# EAGLE library part PSOC4_4200_40QFN (library SparkFun-IC-Microcontroller)
Cypress PSoC 4200 32-bit MCU 48-MHz ARM Cortex-M0 Datasheet <http://www.cypress.com/file/138656/download> SparkFun Products: SparkFun serial Controlled Motor Driver <https://www.sparkfun.com/products/13911>
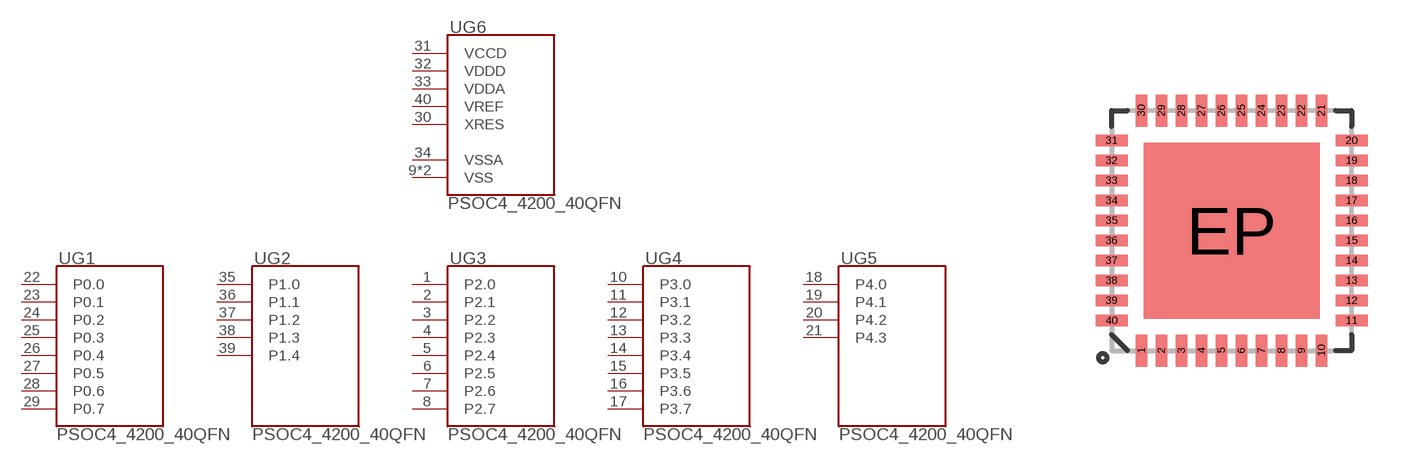
[diagram p24: symbol with the pads of QFN-40; footprint QFN-40]

Designator prefix U; gates G1=CY8C4245LQI_40QFN_PORT0 G2=CY8C4245LQI_40QFN_PORT1 G3=CY8C4245LQI_40QFN_PORT2 G4=CY8C4245LQI_40QFN_PORT3 G5=CY8C4245LQI_40QFN_PORT4 G6=CY8C4245LQI_40QFN_POWER

## PSOC4_4200_40QFN (PROD_ID: IC-13292; VALUE: CY8C4245LQI-483)  [QFN-40]
1  G3:P2.0
2  G3:P2.1
3  G3:P2.2
4  G3:P2.3
5  G3:P2.4
6  G3:P2.5
7  G3:P2.6
8  G3:P2.7
9  G6:VSS
10  G4:P3.0
11  G4:P3.1
12  G4:P3.2
13  G4:P3.3
14  G4:P3.4
15  G4:P3.5
16  G4:P3.6
17  G4:P3.7
18  G5:P4.0
19  G5:P4.1
20  G5:P4.2
21  G5:P4.3
22  G1:P0.0
23  G1:P0.1
24  G1:P0.2
25  G1:P0.3
26  G1:P0.4
27  G1:P0.5
28  G1:P0.6
29  G1:P0.7
30  G6:XRES
31  G6:VCCD
32  G6:VDDD
33  G6:VDDA
34  G6:VSSA
35  G2:P1.0
36  G2:P1.1
37  G2:P1.2
38  G2:P1.3
39  G2:P1.4
40  G6:VREF
EP  G6:VSS

## Footprint QFN-40 (pad centres in mm)
40-QFN from Cypress 4245 datasheet, with Sparkfun DFM
smd 0.285 x 0.8: 1 -2.25,-3; 2 -1.75,-3; 3 -1.25,-3; 4 -0.75,-3; 5 -0.25,-3; 6 0.25,-3; 7 0.75,-3; 8 1.25,-3; 9 1.75,-3; 10 2.25,-3; 21 2.25,3; 22 1.75,3; 23 1.25,3; 24 0.75,3; 25 0.25,3; 26 -0.25,3; 27 -0.75,3; 28 -1.25,3; 29 -1.75,3; 30 -2.25,3
smd 0.8 x 0.285: 11 3,-2.25; 12 3,-1.75; 13 3,-1.25; 14 3,-0.75; 15 3,-0.25; 16 3,0.25; 17 3,0.75; 18 3,1.25; 19 3,1.75; 20 3,2.25; 31 -3,2.25; 32 -3,1.75; 33 -3,1.25; 34 -3,0.75; 35 -3,0.25; 36 -3,-0.25; 37 -3,-0.75; 38 -3,-1.25; 39 -3,-1.75; 40 -3,-2.25
smd 4.4 x 4.4: EP 0,0